# EAGLE library part MSI001 (library MSI001)
Multi-mode Tuner Source: Datasheet <http://sdr.lt/~hexx/MSi001_Datasheet_R3P3.pdf>
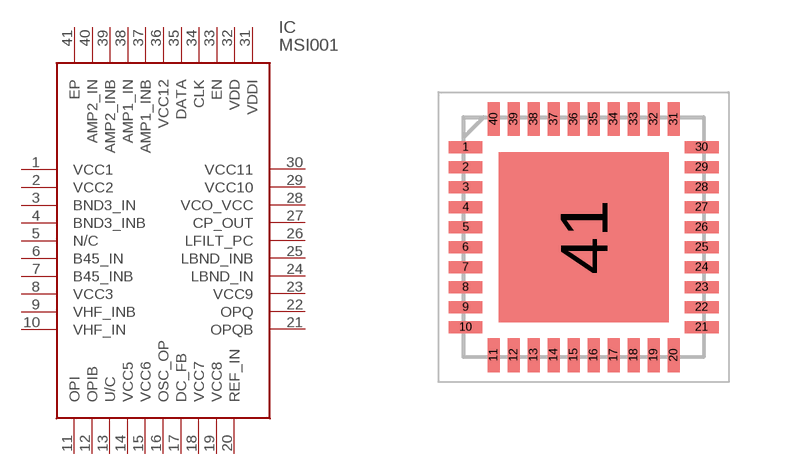
[diagram p0: symbol with the pads of QFN50P600X600X90-41N; footprint QFN50P600X600X90-41N]

Designator prefix IC

## MSI001 (Description: Multi-mode Tuner; Height: 0.9mm; Manufacturer_Name: MIRICS; Manufacturer_Part_Number: MSI001)  [QFN50P600X600X90-41N]
1  VCC1
2  VCC2
3  BND3_IN
4  BND3_INB
5  N/C  nc
6  B45_IN
7  B45_INB
8  VCC3
9  VHF_INB
10  VHF_IN
11  OPI
12  OPIB
13  U/C
14  VCC5
15  VCC6
16  OSC_OP
17  DC_FB
18  VCC7
19  VCC8
20  REF_IN
21  OPQB
22  OPQ
23  VCC9
24  LBND_IN
25  LBND_INB
26  LFILT_PC
27  CP_OUT
28  VCO_VCC
29  VCC10
30  VCC11
31  VDDI
32  VDD
33  EN
34  CLK
35  DATA
36  VCC12
37  AMP1_INB
38  AMP1_IN
39  AMP2_INB
40  AMP2_IN
41  EP

## Footprint QFN50P600X600X90-41N (pad centres in mm)
MSI001
smd 0.85 x 0.3: 1 -2.95,2.25; 2 -2.95,1.75; 3 -2.95,1.25; 4 -2.95,0.75; 5 -2.95,0.25; 6 -2.95,-0.25; 7 -2.95,-0.75; 8 -2.95,-1.25; 9 -2.95,-1.75; 10 -2.95,-2.25; 21 2.95,-2.25; 22 2.95,-1.75; 23 2.95,-1.25; 24 2.95,-0.75; 25 2.95,-0.25; 26 2.95,0.25; 27 2.95,0.75; 28 2.95,1.25; 29 2.95,1.75; 30 2.95,2.25
smd 0.3 x 0.85: 11 -2.25,-2.95; 12 -1.75,-2.95; 13 -1.25,-2.95; 14 -0.75,-2.95; 15 -0.25,-2.95; 16 0.25,-2.95; 17 0.75,-2.95; 18 1.25,-2.95; 19 1.75,-2.95; 20 2.25,-2.95; 31 2.25,2.95; 32 1.75,2.95; 33 1.25,2.95; 34 0.75,2.95; 35 0.25,2.95; 36 -0.25,2.95; 37 -0.75,2.95; 38 -1.25,2.95; 39 -1.75,2.95; 40 -2.25,2.95
smd 4.25 x 4.25: 41 0,0